# Altium footprint library BeagleCape.PcbLib: 30 footprints (part 2 of 2)
Each footprint in its own frame and in the unit in brackets; x right, y up, seen from the top. Pads: shape width x height; smd on the part's side, far side on the other; paste and mask are expansions set on the pad; w line width, h text height; cw(c..) or ccw(c..) is an arc to the next point about the centre after c.
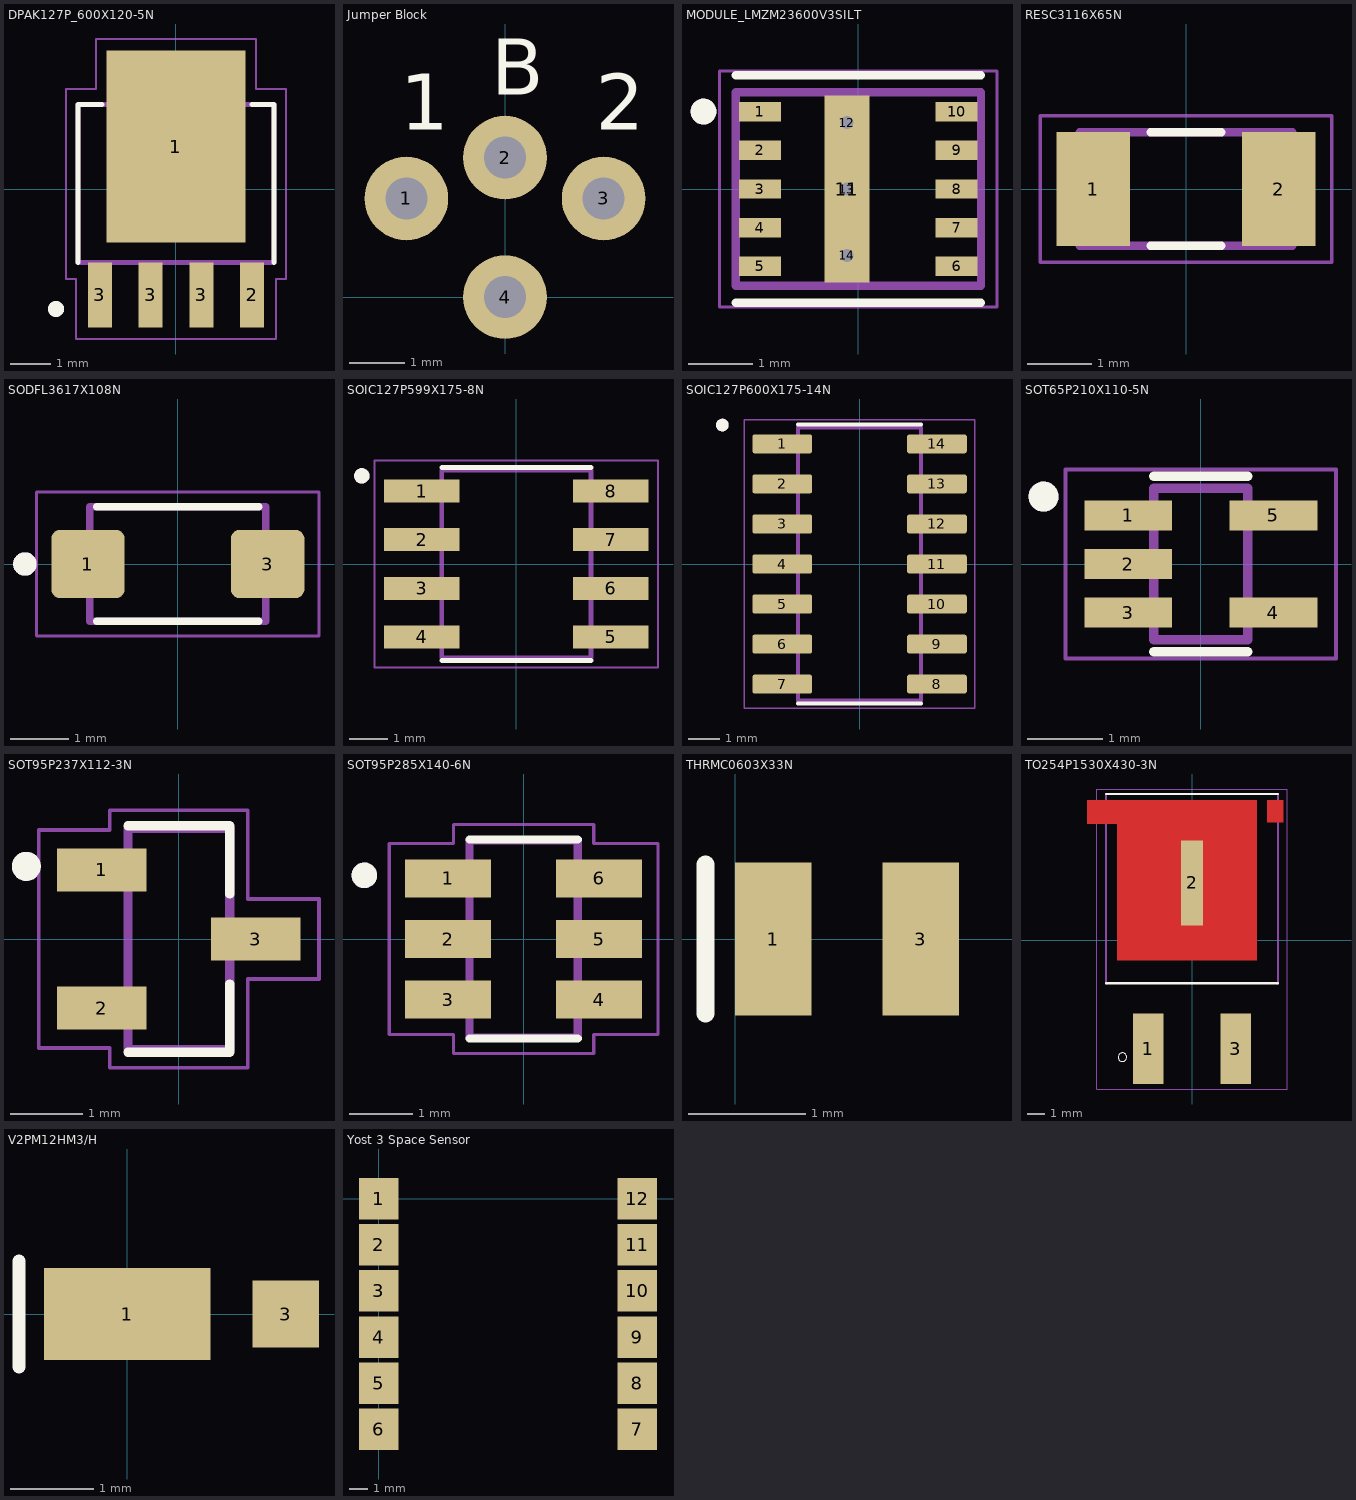
[diagram p1: the footprints below, top view; thin cyan lines are the x and y axes]

## DPAK127P_600X120-5N [mm]
pads (5):
  rect 3.47x4.8 smd: 1(0,1.06)
  rect 0.6x1.62 smd: 2(1.905,-2.65) 3(-1.905,-2.65) 3(-0.635,-2.65) 3(0.635,-2.65)
Top Overlay:
  circle w0.2: c-3,-3 r0.1
  lines w0.127: -2.45,-1.84 -2.45,2.11 -1.85,2.11 ; 1.9,2.11 2.45,2.11 2.45,-1.84
Mechanical 4:
  circle w0.2: c-1.905,-3 r0.1
  circle w0.2: c-1.905,-3 r0.1
  lines w0.127: -2.45,-1.84 2.45,-1.84 ; -2.45,-1.84 -2.45,2.11 ; -2.45,-1.84 2.45,-1.84 ; -2.45,-1.84 -2.45,2.11 ; -2.45,2.11 2.45,2.11 ; -2.45,2.11 2.45,2.11 ; 2.45,-1.84 2.45,2.11 ; 2.45,-1.84 2.45,2.11
Mechanical 16:
  lines w0.05: -2.75,-2.25 -2.75,2.5 -2,2.5 -2,3.75 2,3.75 2,2.5 2.75,2.5 2.75,-2.25 2.5,-2.25 2.5,-3.75 -2.5,-3.75 -2.5,-2.25 -2.75,-2.25

## Jumper Block [mil]
pads (4):
  round 60 hole 30: 1(-70.71,70.71) 2(0,100) 3(70.71,70.71) 4(0,0)
Top Overlay:
  text "2" at 65,120 h40
  text "B" at -10,145 h40
  text "1" at -75,120 h40

## MODULE_LMZM23600V3SILT [mm]
pads (14):
  rect 0.65x0.3 smd: 1(-1.525,1.2) 2(-1.525,0.6) 3(-1.525,0) 4(-1.525,-0.6) 5(-1.525,-1.2) 6(1.525,-1.2) 7(1.525,-0.6) 8(1.525,0) 9(1.525,0.6) 10(1.525,1.2)
  rect 0.7x2.9 smd: 11(-0.175,0)
  round 0.3 hole 0.2: 12(-0.175,1.03) 13(-0.175,0) 14(-0.175,-1.03)
Top Overlay:
  circle w0.2: c-2.4,1.2 r0.1
  lines w0.127: -1.9,-1.763 1.9,-1.763 ; -1.9,1.763 1.9,1.763
Top Paste:
  region: -0.525,0.416 0.175,0.416 0.175,-0.416 -0.525,-0.416
  region: -0.525,-0.613 0.175,-0.613 0.175,-1.446 -0.525,-1.446
  region: -0.525,1.446 0.175,1.446 0.175,0.613 -0.525,0.613
Top Solder:
  region: -0.575,1.5 0.225,1.5 0.225,-1.5 -0.575,-1.5
  region: -1.9,1.4 -1.15,1.4 -1.15,1 -1.9,1
  region: -1.9,0.8 -1.15,0.8 -1.15,0.4 -1.9,0.4
  region: -1.9,0.2 -1.15,0.2 -1.15,-0.2 -1.9,-0.2
  region: -1.9,-0.4 -1.15,-0.4 -1.15,-0.8 -1.9,-0.8
  region: -1.9,-1 -1.15,-1 -1.15,-1.4 -1.9,-1.4
  region: 1.15,1.4 1.9,1.4 1.9,1 1.15,1
  region: 1.15,0.8 1.9,0.8 1.9,0.4 1.15,0.4
  region: 1.15,0.2 1.9,0.2 1.9,-0.2 1.15,-0.2
  region: 1.15,-0.4 1.9,-0.4 1.9,-0.8 1.15,-0.8
  region: 1.15,-1 1.9,-1 1.9,-1.4 1.15,-1.4
Mechanical 4:
  circle w0.2: c-2.4,1.2 r0.1
  circle w0.2: c-2.4,1.2 r0.1
  lines w0.127: -1.9,-1.5 1.9,-1.5 ; -1.9,-1.5 -1.9,1.5 ; -1.9,-1.5 1.9,-1.5 ; -1.9,-1.5 -1.9,1.5 ; -1.9,1.5 1.9,1.5 ; -1.9,1.5 1.9,1.5 ; 1.9,-1.5 1.9,1.5 ; 1.9,-1.5 1.9,1.5
Mechanical 16:
  lines w0.05: -2.15,-1.827 2.15,-1.827 2.15,1.827 -2.15,1.827 -2.15,-1.827

## RESC3116X65N [mm]
pads (2):
  rect 1.14x1.77 smd: 1(-1.44,0) 2(1.44,0)
Top Overlay:
  lines w0.127: -0.55,-0.88 0.55,-0.88 ; -0.55,0.88 0.55,0.88
Mechanical 13:
  lines w0.127: -1.65,-0.88 -1.65,0.88 1.65,0.88 1.65,-0.88 -1.65,-0.88
Mechanical 15:
  lines w0.05: -2.258,-1.135 -2.258,1.135 2.258,1.135 2.258,-1.135 -2.258,-1.135

## SODFL3617X108N [mm]
pads (2):
  rrect25% 1.25x1.16 smd: 1(-1.53,0) 3(1.53,0)
Top Overlay:
  circle w0.2: c-2.605,0 r0.1
  lines w0.127: -1.38,-0.975 1.38,-0.975 ; -1.38,0.975 1.38,0.975
Mechanical 13:
  circle w0.2: c-2.605,0 r0.1
  lines w0.127: -1.5,-0.975 -1.5,0.975 -0.6,0.975 1.5,0.975 1.5,-0.975 -0.6,-0.975 -1.5,-0.975
Mechanical 15:
  lines w0.05: -2.405,-1.225 2.405,-1.225 2.405,1.225 -2.405,1.225 -2.405,-1.225

## SOIC127P599X175-8N [mm]
pads (8):
  rect 1.97x0.6 smd: 1(-2.47,1.905) 2(-2.47,0.635) 3(-2.47,-0.635) 4(-2.47,-1.905) 5(2.47,-1.905) 6(2.47,-0.635) 7(2.47,0.635) 8(2.47,1.905)
Top Overlay:
  circle w0.2: c-4.04,2.305 r0.1
  lines w0.127: -1.95,-2.525 1.95,-2.525 ; -1.95,2.525 1.95,2.525
Mechanical 4:
  circle w0.2: c-4.04,2.305 r0.1
  circle w0.2: c-4.04,2.305 r0.1
  lines w0.127: -1.95,-2.452 1.95,-2.452 ; -1.95,-2.452 -1.95,2.452 ; -1.95,-2.452 1.95,-2.452 ; -1.95,-2.452 -1.95,2.452 ; -1.95,2.452 1.95,2.452 ; -1.95,2.452 1.95,2.452 ; 1.95,-2.452 1.95,2.452 ; 1.95,-2.452 1.95,2.452
Mechanical 16:
  lines w0.05: -3.705,-2.702 3.705,-2.702 3.705,2.702 -3.705,2.702 -3.705,-2.702

## SOIC127P600X175-14N [mm]
pads (14):
  rrect25% 1.9x0.6 smd: 1(-2.455,3.81) 2(-2.455,2.54) 3(-2.455,1.27) 4(-2.455,0) 5(-2.455,-1.27) 6(-2.455,-2.54) 7(-2.455,-3.81) 8(2.455,-3.81) 9(2.455,-2.54) 10(2.455,-1.27) 11(2.455,0) 12(2.455,1.27) 13(2.455,2.54) 14(2.455,3.81)
Top Overlay:
  circle w0.2: c-4.355,4.41 r0.1
  lines w0.127: -1.95,-4.43 1.95,-4.43 ; -1.95,4.43 1.95,4.43
Mechanical 13:
  circle w0.2: c-4.355,4.41 r0.1
  lines w0.127: -1.95,-4.325 -1.95,4.325 1.95,4.325 1.95,-4.325 -1.95,-4.325
Mechanical 15:
  lines w0.05: -3.655,-4.575 -3.655,4.575 3.655,4.575 3.655,-4.575 -3.655,-4.575

## SOT65P210X110-5N [mm]
pads (5):
  rect 1.17x0.4 smd: 1(-0.97,0.65) 2(-0.97,0) 3(-0.97,-0.65) 4(0.97,-0.65) 5(0.97,0.65)
Top Overlay:
  circle w0.2: c-2.1,0.9 r0.1
  lines w0.127: -0.625,-1.17 0.625,-1.17 ; -0.625,1.17 0.625,1.17
Mechanical 4:
  circle w0.2: c-2.1,0.9 r0.1
  circle w0.2: c-2.1,0.9 r0.1
  lines w0.127: -0.625,-1.012 -0.625,1.012 ; -0.625,-1.012 0.625,-1.012 ; -0.625,-1.012 -0.625,1.012 ; -0.625,-1.012 0.625,-1.012 ; -0.625,1.012 0.625,1.012 ; -0.625,1.012 0.625,1.012 ; 0.625,-1.012 0.625,1.012 ; 0.625,-1.012 0.625,1.012
Mechanical 16:
  lines w0.05: -1.805,-1.262 -1.805,1.262 1.805,1.262 1.805,-1.262 -1.805,-1.262

## SOT95P237X112-3N [mm]
pads (3):
  rect 1.23x0.59 smd: 1(-1.06,0.95) 2(-1.06,-0.95) 3(1.06,0)
Top Overlay:
  circle w0.2: c-2.1,1 r0.1
  lines w0.127: -0.7,-1.56 0.7,-1.56 0.7,-0.62 ; -0.7,1.56 0.7,1.56 0.7,0.62
Mechanical 4:
  circle w0.2: c-2.1,1 r0.1
  circle w0.2: c-2.1,1 r0.1
  lines w0.127: -0.7,-1.52 0.7,-1.52 ; -0.7,-1.52 -0.7,1.52 ; -0.7,-1.52 0.7,-1.52 ; -0.7,-1.52 -0.7,1.52 ; -0.7,1.52 0.7,1.52 ; -0.7,1.52 0.7,1.52 ; 0.7,-1.52 0.7,1.52 ; 0.7,-1.52 0.7,1.52
Mechanical 16:
  lines w0.05: -1.93,-1.5 -0.95,-1.5 -0.95,-1.77 0.95,-1.77 0.95,-0.55 1.93,-0.55 1.93,0.55 0.95,0.55 0.95,1.77 -0.95,1.77 -0.95,1.5 -1.93,1.5 -1.93,-1.5

## SOT95P285X140-6N [mm]
pads (6):
  rect 1.35x0.6 smd: 1(-1.185,0.95) 2(-1.185,0) 3(-1.185,-0.95) 4(1.185,-0.95) 5(1.185,0) 6(1.185,0.95)
Top Overlay:
  circle w0.2: c-2.5,1 r0.1
  lines w0.127: -0.85,-1.564 0.85,-1.564 ; -0.85,1.564 0.85,1.564
Mechanical 4:
  circle w0.2: c-2.5,1 r0.1
  circle w0.2: c-2.5,1 r0.1
  lines w0.127: -0.85,-1.55 0.85,-1.55 ; -0.85,-1.55 -0.85,1.55 ; -0.85,-1.55 0.85,-1.55 ; -0.85,-1.55 -0.85,1.55 ; -0.85,1.55 0.85,1.55 ; -0.85,1.55 0.85,1.55 ; 0.85,-1.55 0.85,1.55 ; 0.85,-1.55 0.85,1.55
Mechanical 16:
  lines w0.05: -2.11,-1.5 -1.1,-1.5 -1.1,-1.8 1.1,-1.8 1.1,-1.5 2.11,-1.5 2.11,1.5 1.1,1.5 1.1,1.8 -1.1,1.8 -1.1,1.5 -2.11,1.5 -2.11,-1.5

## THRMC0603X33N [mm]
pads (2):
  rect 0.65x1.3 smd: 1(0.325,0) 3(1.575,0)
Top Overlay:
  lines w0.152: -0.254,-0.635 -0.254,0.635

## TO254P1530X430-3N [mm]
pads (3):
  rect 1.77x4.08 smd: 1(-2.54,-6.31) 3(2.54,-6.31)
  rect 1.3x4.95 smd: 2(0,3.335)
Top Layer:
  region: -6.099,8.15 -3.75,8.15 -3.75,6.789 -6.099,6.789
  region: 4.371,8.15 5.3,8.15 5.3,6.877 4.371,6.877
  region: -4.352,8.15 3.75,8.15 3.75,-1.16 -4.352,-1.16
Top Overlay:
  circle w0: c-4.05,-6.8 r0.25
  lines w0.127: -5,-2.5 5,-2.5 ; -5,8.5 5,8.5
Top Paste:
  region: 1.653,8.15 3.05,8.15 3.05,6.727 1.653,6.727
  region: -3.567,8.15 -1.45,8.15 -1.45,6.9 -3.567,6.9
  region: 1.675,2.15 3.05,2.15 3.05,-0.116 1.675,-0.116
  region: -0.915,2.15 0.8,2.15 0.8,-0.114 -0.915,-0.114
  region: -3.535,2.15 -1.45,2.15 -1.45,-0.116 -3.535,-0.116
  region: 1.679,5.15 3.05,5.15 3.05,3.359 1.679,3.359
  region: -0.928,5.15 0.8,5.15 0.8,3.365 -0.928,3.365
  region: -3.528,5.15 -1.45,5.15 -1.45,3.354 -3.528,3.354
  region: -0.915,8.15 0.8,8.15 0.8,6.751 -0.915,6.751
  region: -6.156,8.15 -3.75,8.15 -3.75,6.852 -6.156,6.852
  region: 4.36,8.15 5.3,8.15 5.3,6.859 4.36,6.859
Top Solder:
  region: 4.322,8.25 5.4,8.25 5.4,6.685 4.322,6.685
  region: -6.256,8.25 -3.75,8.25 -3.75,6.719 -6.256,6.719
  region: -4.515,8.25 3.85,8.25 3.85,-1.29 -4.515,-1.29
Mechanical 4:
  lines w0.127: -5,-2.5 -5,8.5 -5,-2.5 ; 5,-2.5 5,8.5 5,-2.5
Mechanical 16:
  lines w0.05: -5.55,-8.65 5.55,-8.65 5.55,8.8 -5.55,8.8 -5.55,-8.65

## V2PM12HM3/H [mm]
height 0.68
pads (2):
  rect 2x1.1 smd: 1(0,0)
  rect 0.8x0.8 smd: 3(1.9,0)
Top Overlay:
  lines w0.152: -1.3,-0.635 -1.3,0.635

## Yost 3 Space Sensor [mil]
pads (12):
  rect 85x90 smd: 1(0,0) 2(0,-100) 3(0,-200) 4(0,-300) 5(0,-400) 6(0,-500) 7(560.04,-500) 8(560.04,-400) 9(560.04,-300) 10(560.04,-200) 11(560.04,-100) 12(560.04,0)
Bottom Solder:
  region: 45,-545 45,-355 180,-355 180,-545